# Altium schematic symbol library ECX-2236.SchLib: 1 symbol
Pins are listed as number, name and electrical type; pins without a type are passive.

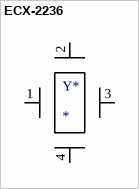
[diagram p0: symbol ECX-2236]

## ECX-2236
designator Y*
CRYSTAL 24.000 MHZ 8PF SMD
footprint ECX-2236 (CRYSTAL 24.000 MHZ 8PF SMD)
pins: 1, 2, 3, 4